# EAGLE library part FSA2257 (library _RoweTel)
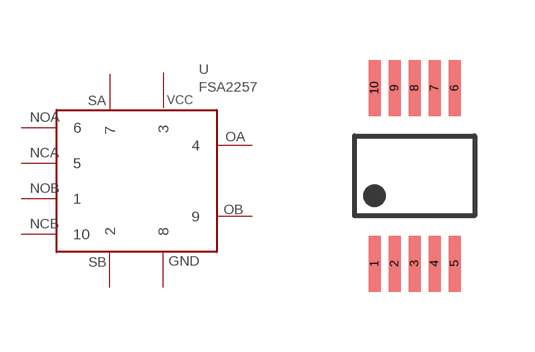
[diagram p10: symbol with the pads of MSOP10; footprint MSOP10]

Designator prefix U

## FSA2257  [MSOP10]
1  3
2  1
3  2
4  4
5  5
6  6
7  7
8  8
9  9
10  10

## Footprint MSOP10 (pad centres in mm)
smd 0.3 x 1.4: 1 -1,-2.2; 2 -0.5,-2.2; 3 0,-2.2; 4 0.5,-2.2; 5 1,-2.2; 6 1,2.2; 7 0.5,2.2; 8 0,2.2; 9 -0.5,2.2; 10 -1,2.2